# Altium schematic symbol library LineDrivers.SchLib: 1 symbol
Pins are listed as number, name and electrical type; pins without a type are passive.

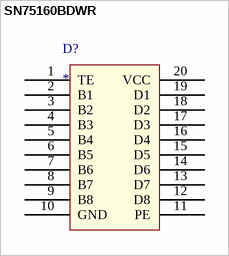
[diagram p0: symbol SN75160BDWR]

## SN75160BDWR
designator D?
footprint SOIC-20
pins: 1 TE, 2 B1, 3 B2, 4 B3, 5 B4, 6 B5, 7 B6, 8 B7, 9 B8, 10 GND, 11 PE, 12 D8, 13 D7, 14 D6, 15 D5, 16 D4, 17 D3, 18 D2, 19 D1, 20 VCC